# Altium footprint library 2-1825027-0.PcbLib: 2 footprints
Each footprint in its own frame and in the unit in brackets; x right, y up, seen from the top. Pads: shape width x height; smd on the part's side, far side on the other; paste and mask are expansions set on the pad; w line width, h text height; cw(c..) or ccw(c..) is an arc to the next point about the centre after c.
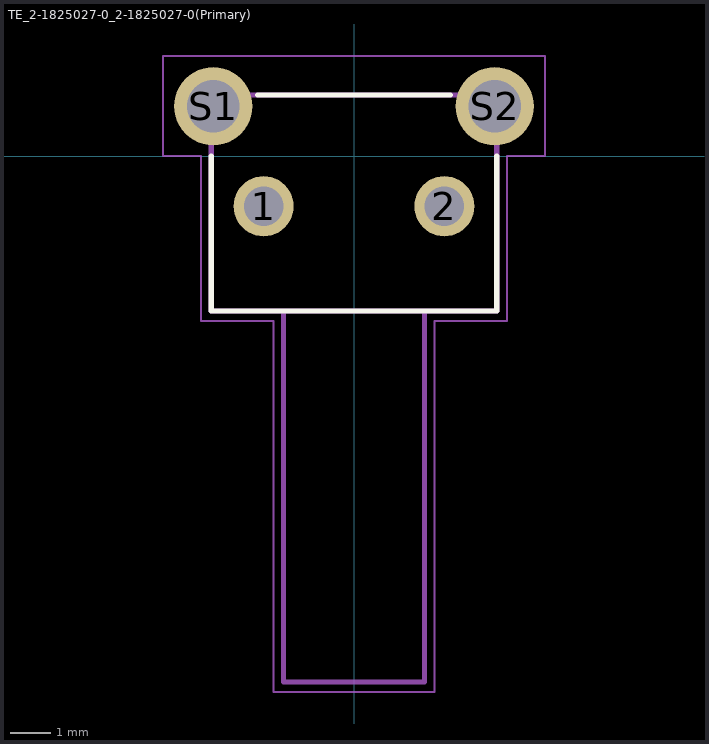
[diagram p0: the footprints below, top view; thin cyan lines are the x and y axes]

## PCBComponent_1 [mm]

## TE_2-1825027-0_2-1825027-0(Primary) [mm]
pads (4):
  round 1.498 hole 0.99: 1(-2.25,-1.245) 2(2.25,-1.245)
  round 1.95 hole 1.3: S1(-3.505,1.245) S2(3.505,1.245)
Top Overlay:
  lines w0.127: -3.555,0 -3.555,-3.855 3.555,-3.855 3.555,0 ; -2.4,1.52 2.4,1.52
Mechanical 1:
  lines w0.05: -4.75,0 -3.805,0 -3.805,-4.105 -2.005,-4.105 -2.005,-13.345 2.005,-13.345 2.005,-4.105 3.805,-4.105 3.805,0 4.75,0 4.75,2.5 -4.75,2.5 -4.75,0
  lines w0.127: -1.755,-3.855 -1.755,-13.095 1.755,-13.095 1.755,-3.855 ; -1.755,-3.855 -3.555,-3.855 -3.555,1.52 3.555,1.52 3.555,-3.855 1.755,-3.855 ; -1.755,-3.855 1.755,-3.855